# Altium footprint library MyLibrary.PcbLib: 365 footprints (part 6 of 23)
Each footprint in its own frame and in the unit in brackets; x right, y up, seen from the top. Pads: shape width x height; smd on the part's side, far side on the other; paste and mask are expansions set on the pad; w line width, h text height; cw(c..) or ccw(c..) is an arc to the next point about the centre after c.
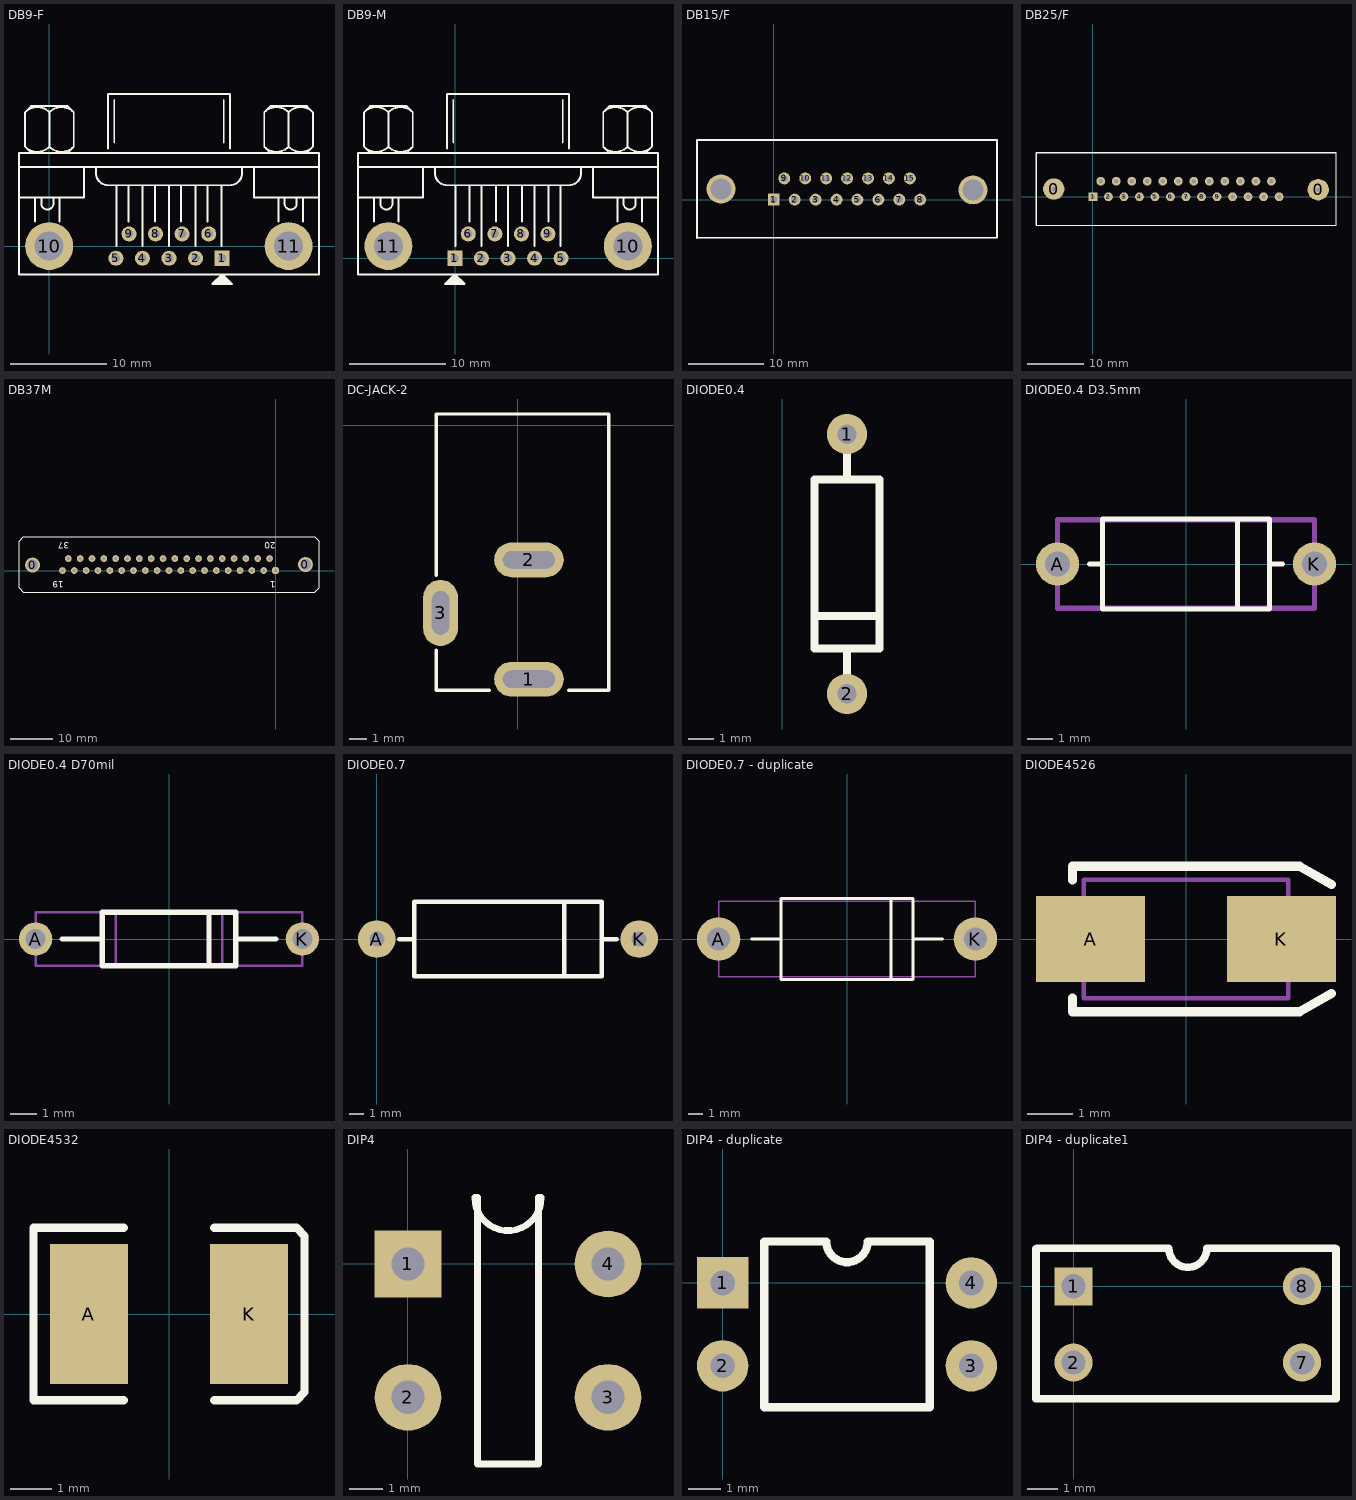
[diagram p5: the footprints below, top view; thin cyan lines are the x and y axes]

## DB9-F [mil]
pads (11):
  rect 62x62 hole 35: 1(710.83,-50)
  round 62 hole 35: 2(601.66,-50) 3(492.5,-50) 4(383.33,-50) 5(274.16,-50) 6(655.83,50) 7(546.66,50) 8(437.5,50) 9(328.33,50)
  round 197 hole 119: 10(0,0) 11(984.16,0)
Top Overlay:
  lines w8: -124.17,325.2 1109.16,325.2 ; -122.2,200 -107.5,200 142.5,200 142.5,323.45 ; -99.25,408.45 ccw(c-49.17,458.53) 0.91,408.45 0.92,550.28 ccw(c-49.16,500.19) -99.25,550.28 ; -74.17,383.53 -99.17,408.53 -99.17,550.2 -74.17,575.2 75.83,575.2 100.83,550.2 100.83,408.53 75.83,383.53 ; -57.5,100 -57.5,200 ; -32.5,200 -32.5,175 ccw(c-7.5,175) 17.5,175 17.5,200 ; 0.75,408.45 ccw(c50.83,458.53) 100.91,408.45 ; 0.75,550.28 cw(c50.84,500.19) 100.92,550.28 ; 42.5,100 42.5,200 ; 192.5,324.19 192.5,300 ccw(c242.5,300) 242.5,250 742.5,250 ccw(c742.5,300) 792.5,300 792.5,323.85 ; 242.5,400.2 242.5,625.2 742.5,625.2 742.5,400.2 ; 267.5,425.2 267.5,600.2 ; 275.83,0 275.83,250 ; 325.83,100 325.83,250 ; 384.16,0 384.16,250 ; 434.16,100 434.16,250 ; 492.5,0 492.5,250 ; 542.5,100 542.5,250 ; 600.83,0 600.83,250 ; 650.83,100 650.83,108.33 650.83,250 ; 678.38,-148.33 742.76,-148.33 ; 686.35,-140.35 734.78,-140.35 ; 694.03,-132.68 727.11,-132.68 ; 701.19,-125.51 720.14,-125.51 ; 709.16,0 709.16,250 ; 717.5,425.2 717.5,600.2 ; 842.5,323.79 842.5,200 1092.5,200 1107.19,200 ; 884.08,408.45 ccw(c934.16,458.54) 984.25,408.45 984.25,550.28 ccw(c934.16,500.19) 884.08,550.28 ; 909.16,383.53 884.16,408.53 884.16,550.2 909.16,575.2 1059.16,575.2 1084.16,550.2 1084.16,408.53 1059.16,383.53 ; 942.5,100 942.5,200 ; 967.5,200 967.5,175 ccw(c992.5,175) 1017.5,175 1017.5,200 ; 984.08,408.45 ccw(c1034.16,458.54) 1084.25,408.45 ; 984.08,550.28 cw(c1034.16,500.19) 1084.25,550.28 ; 1042.5,100 1042.5,200 ; -124.17,-116.67 1109.16,-116.67 1109.16,383.53 -124.17,383.53 -124.17,-116.67 ; 670.83,-155.87 750.83,-155.87 710.83,-115.87 670.83,-155.87
Multi-Layer:
  text "6" at 730.83,20 h25
  text "9" at 222.98,20.87 h25
  text "5" at 187.55,-73.62 h25
  text "1" at 766.29,-69.68 h25

## DB9-M [mil]
pads (11):
  rect 62x62 hole 35: 1(-0.83,0)
  round 62 hole 35: 2(108.34,0) 3(217.5,0) 4(326.67,0) 5(435.84,0) 6(54.17,100) 7(163.34,100) 8(272.5,100) 9(381.67,100)
  round 197 hole 119: 10(710,50) 11(-274.16,50)
Top Overlay:
  lines w8: -399.16,375.2 834.17,375.2 ; -397.19,250 -382.5,250 -132.5,250 -132.5,373.79 ; -374.25,458.45 ccw(c-324.17,508.54) -274.08,458.45 ; -374.25,600.28 cw(c-324.17,550.2) -274.08,600.28 ; -349.16,433.53 -374.16,458.53 -374.16,600.2 -349.16,625.2 -199.16,625.2 -174.16,600.2 -174.16,458.53 -199.16,433.53 ; -332.5,150 -332.5,250 ; -307.5,250 -307.5,225 ccw(c-282.5,225) -257.5,225 -257.5,250 ; -232.5,150 -232.5,250 ; -174.08,458.45 cw(c-224.16,508.54) -274.25,458.45 -274.25,600.28 cw(c-224.16,550.2) -174.08,600.28 ; -82.5,373.85 -82.5,350 ccw(c-32.5,350) -32.5,300 467.5,300 ccw(c467.5,350) 517.5,350 517.5,374.19 ; -32.76,-98.33 31.62,-98.33 ; -32.5,450.2 -32.5,675.2 467.5,675.2 467.5,450.2 ; -24.78,-90.35 23.65,-90.35 ; -17.11,-82.68 15.97,-82.68 ; -10.14,-75.51 8.81,-75.51 ; -7.5,475.2 -7.5,650.2 ; 0.84,50 0.84,300 ; 59.17,150 59.17,158.33 59.17,300 ; 109.17,50 109.17,300 ; 167.5,150 167.5,300 ; 217.5,50 217.5,300 ; 275.84,150 275.84,300 ; 325.84,50 325.84,300 ; 384.17,150 384.17,300 ; 434.17,50 434.17,300 ; 442.5,475.2 442.5,650.2 ; 567.5,373.45 567.5,250 817.5,250 832.2,250 ; 609.09,458.45 ccw(c659.17,508.53) 709.25,458.45 ; 609.08,600.28 cw(c659.16,550.2) 709.25,600.28 ; 634.17,433.53 609.17,458.53 609.17,600.2 634.17,625.2 784.17,625.2 809.17,600.2 809.17,458.53 784.17,433.53 ; 667.5,150 667.5,250 ; 692.5,250 692.5,225 ccw(c717.5,225) 742.5,225 742.5,250 ; 767.5,150 767.5,250 ; 809.25,458.45 cw(c759.17,508.53) 709.09,458.45 709.08,600.28 cw(c759.16,550.2) 809.25,600.28 ; -399.16,-66.67 -399.16,433.53 834.17,433.53 834.17,-66.67 -399.16,-66.67 ; -40.83,-105.87 -0.83,-65.87 39.17,-105.87 -40.83,-105.87
Multi-Layer:
  text "6" at -40,60 h25
  text "9" at 487.02,70.87 h25
  text "5" at 522.45,-23.62 h25
  text "1" at -65,-20 h25

## DB15/F [mil]
pads (17):
  rect 62x62 hole 38: 1(0,0)
  round 62 hole 38: 2(109,0) 3(218,0) 4(327,0) 5(436,0) 6(545,0) 7(654,0) 8(763,0) 9(55,110) 10(164,110) 11(273,110) 12(382,110) 13(491,110) 14(600,110) 15(709,110)
  round 150 hole 110: ""(-275,55) ""(1038,50)
Top Overlay:
  lines w8: -400,-200 1163,-200 1163,310
  lines w10: -400,-200 -400,310 1163,310

## DB25/F [mil]
pads (27):
  round 150 hole 32: 0(-275,55) 0(1583,50)
  rect 62x62 hole 32: 1(0,0)
  round 62 hole 32: 2(109,0) 3(218,0) 4(327,0) 5(436,0) 6(545,0) 7(654,0) 8(763,0) 9(872,0) 10(981,0) 11(1090,0) 12(1199,0) 13(1308,0) 14(55,110) 15(164,110) 16(273,110) 17(382,110) 18(491,110) 19(600,110) 20(709,110) 21(818,110) 22(927,110) 23(1036,110) 24(1145,110) 25(1254,110)
Top Overlay:
  lines w8: -400,-200 1708,-200 1708,310
  lines w10: -400,-200 -400,310 1708,310

## DB37M [mil]
pads (39):
  round 137.8 hole 98.43: 0(-2237,50) 0(275,55)
  oct 62x62 hole 32: 1(0,0)
  round 62 hole 32: 2(-109,0) 3(-218,0) 4(-327,0) 5(-436,0) 6(-545,0) 7(-654,0) 8(-763,0) 9(-872,0) 10(-981,0) 11(-1090,0) 12(-1199,0) 13(-1308,0) 14(-1417,0) 15(-1526,0) 16(-1635,0) 17(-1744,0) 18(-1853,0) 19(-1962,0) 20(-55,110) 21(-164,110) 22(-273,110) 23(-382,110) 24(-491,110) 25(-600,110) 26(-709,110) 27(-818,110) 28(-927,110) 29(-1036,110) 30(-1145,110) 31(-1254,110) 32(-1363,110) 33(-1472,110) 34(-1581,110) 35(-1690,110) 36(-1799,110) 37(-1908,110)
Top Overlay:
  lines w10: -2320,310 -2322,310 ; -2322,310 -2362,270 -2362,-160 -2322,-200 -2320,-200 360,-200 400,-160 400,270 360,310 -2322,310
  text "1" at 0,-100 h60
  text "19" at -1950,-100 h60
  text "20" at 0,260 h60
  text "37" at -1900,260 h60

## DC-JACK-2 [mm]
pads (3):
  oval 4x2 hole 1 slot 3 at 0 deg: 1(0.635,-14.605) 2(0.635,-7.747)
  oval 2x3.8 hole 1 slot 2.5 at 90 deg: 3(-4.445,-10.795)
Top Overlay:
  lines w0.2: -4.699,-12.954 -4.699,-15.24 -1.651,-15.24 ; -4.699,-8.636 -4.699,0.635 5.207,0.635 5.207,-15.24 2.921,-15.24

## DIODE0.4 [mil]
pads (2):
  round 62 hole 30: 1(100,500) 2(100,100)
Top Overlay:
  lines w12: 50,220 150,220 ; 100,100 100,170 ; 100,430 100,500 ; 50,170 150,170 150,430 50,430 50,170

## DIODE0.4 D3.5mm [mm]
pads (2):
  round 1.7 hole 1: A(-5.08,0) K(5.08,0)
Top Overlay:
  lines w0.2: -3.81,0 -3.302,0 ; 2.032,-1.778 2.032,1.778 ; 3.302,0 3.81,0 ; -3.302,-1.778 -3.302,1.778 3.302,1.778 3.302,-1.778 -3.302,-1.778
Mechanical 1:
  lines w0.2: -5.08,-1.75 5.08,-1.75 5.08,1.75 -5.08,1.75 -5.08,-1.75

## DIODE0.4 D70mil [mil]
pads (2):
  round 50 hole 30: A(-200,0) K(200,0)
Top Overlay:
  lines w7.87: -160,0 -100,0 ; 60,-40 60,40 ; 100,0 160,0 ; -100,-40 -100,40 100,40 100,-40 -100,-40
Mechanical 1:
  lines w4: -80,-40 -80,40 ; 80,-40 80,40 ; -200,-40 200,-40 200,40 -200,40 -200,-40

## DIODE0.7 [mil]
pads (2):
  round 100 hole 40: A(0,0) K(700,0)
Top Overlay:
  lines w12: 60,0 100,0 ; 500,-100 500,100 ; 600,0 640,0 ; 100,-100 600,-100 600,100 100,100 100,-100

## DIODE0.7 - duplicate [mm]
pads (2):
  round 3 hole 1.6: A(-8.89,0) K(8.89,0)
Top Overlay:
  lines w0.2: -6.604,0 -4.572,0 ; 3.048,-2.794 3.048,2.794 ; 4.572,0 6.604,0 ; -4.572,-2.794 4.572,-2.794 4.572,2.794 -4.572,2.794 -4.572,-2.794
Mechanical 1:
  lines w0.1: -8.89,-2.6 -8.89,2.6 8.89,2.6 8.89,-2.6 -8.89,-2.6

## DIODE4526 [mm]
pads (2):
  rect 2.4x1.9 smd: A(-2.1,0) K(2.1,0)
Top Overlay:
  lines w0.2: -2.5,-1.3 -2.5,-1.6 2.5,-1.6 3.2,-1.2 ; -2.5,1.3 -2.5,1.6 2.5,1.6 3.2,1.2
Mechanical 1:
  lines w0.1: -2.5,-0.75 -2.5,0.75 -1.3,0.75 -1.3,-0.75 -2.5,-0.75 ; -2.25,-1.3 -2.25,1.3 2.25,1.3 2.25,-1.3 -2.25,-1.3 ; 1.3,-0.75 1.3,0.75 2.5,0.75 2.5,-0.75 1.3,-0.75

## DIODE4532 [mm]
pads (2):
  rect 1.9x3.4 smd: A(-1.95,0) K(1.95,0)
Top Overlay:
  lines w0.2: -1.1,-2.1 -3.3,-2.1 -3.3,2.1 -1.1,2.1 ; 1.1,-2.1 3.1,-2.1 3.3,-1.9 3.3,1.9 3.1,2.1 1.1,2.1

## DIP4 [mm]
pads (4):
  rect 2x2 hole 1: 1(0,0)
  round 2 hole 1: 2(0,-4) 3(6,-4) 4(6,0)
Top Overlay:
  lines w0.2: 2,2 ccw(c3,2) 4,2 3.915,2 3.915,-6 2.085,-6 2.085,2 2,2

## DIP4 - duplicate [mil]
pads (4):
  rect 62x62 hole 30: 1(0,0)
  round 62 hole 30: 2(0,-100) 3(300,-100) 4(300,0)
Top Overlay:
  lines w10: 50,-150 50,50 125,50 ccw(c150,50) 175,50 250,50 250,-150 50,-150

## DIP4 - duplicate1 [mil]
pads (4):
  rect 50x50 hole 32: 1(0,0)
  round 50 hole 32: 2(0,-100) 7(300,-100) 8(300,0)
Top Overlay:
  lines w10: -49.21,-147.64 344.49,-147.64 344.49,49.21 343.7,50 250,50 175,50 cw(c150,50) 125,50 50,50 -48.43,50 -49.21,49.21 -49.21,-147.64